# Altium integrated library Intersil Discrete MOSFET.IntLib: 281 symbols (part 4 of 5)
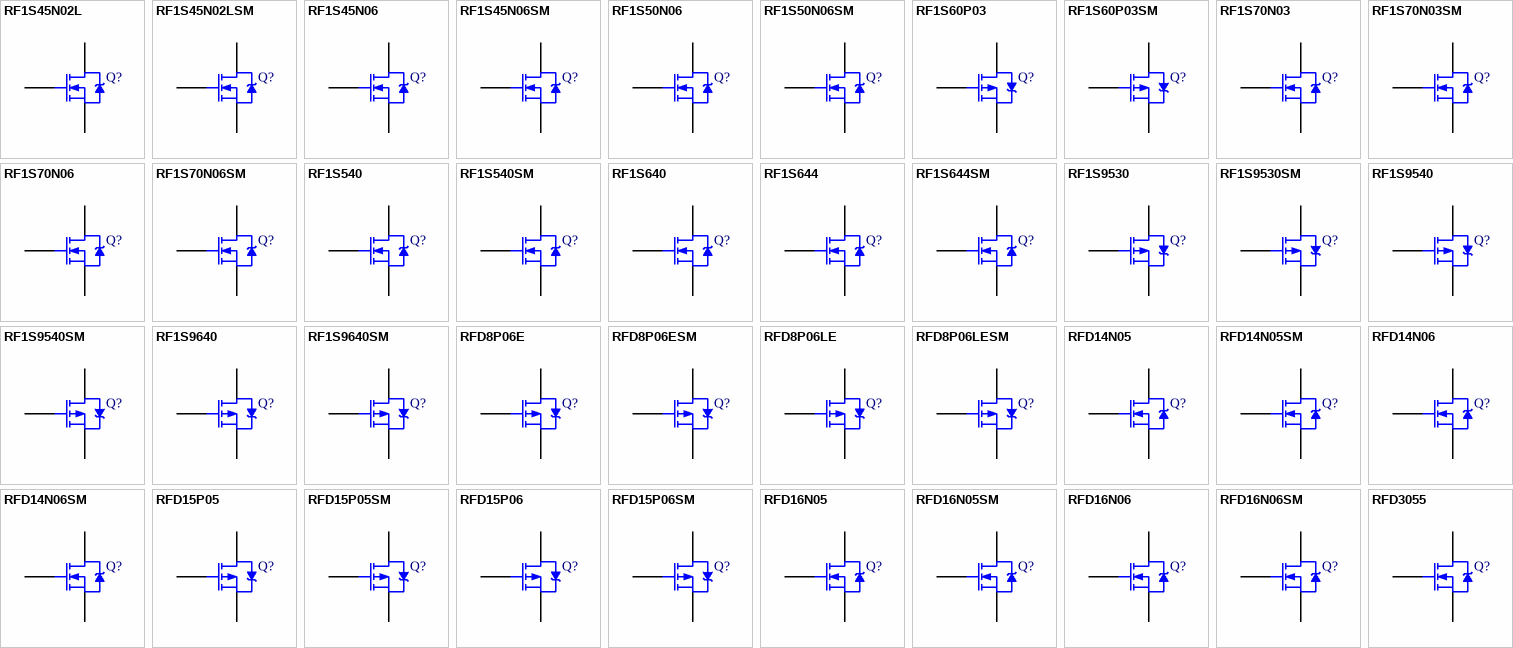
[diagram p10: symbols RF1S45N02L to RFD3055]

## RF1S60P03
designator Q?
60A, 30V, 0.027 Ohm, P-Channel Power MOSFET; Note: Pin 2 (drain) is electrically connected to the flange; Published: 8-Jun-2000; LatestRevisionDate: 17-Jul-2002; LatestRevisionNote: VTO made negative; Re-released for DXP Platform.; DatasheetVersion: Sep-1998; PackageVersion: 1997; PackageReference: TO-262AA; Publisher: Altium Limited; PackageDescription: TO, Thru-Hole, Vertical, Heatsink Mounted; 3 In-Line Leads; Pitch 2.54 mm; Code_JEDEC: TO-262-AA; ComponentLink1Description: Manufacturer Link; ComponentLink1URL: http://www.intersil.com/cda/home/
footprint TO-262AA (TO, Thru-Hole, Vertical, Heatsink Mounted; 3 In-Line Leads; Pitch 2.54 mm)
simulation model RF1S60P03 (SUBCKT)
pins: 1 G, 2 D, 3 S

## RF1S60P03SM
designator Q?
60A, 30V, 0.027 Ohm, P-Channel Power MOSFET; Note: Pin 4 (flange drain) is electrically connected to the Pin 2; Pin 2 is trimmed and not drawn; Published: 8-Jun-2000; LatestRevisionDate: 29-May-2009; LatestRevisionNote: IPC-7351 Footprint Added.; DatasheetVersion: Jul-1999; PackageVersion: 1999; PackageReference: TO-263AB; Publisher: Altium Limited; PackageDescription: 3-Pin Transistor Outline Package 2.54 mm Pitch, 15.2 mm Lead Span; Code_JEDEC: TO-263-AB; ComponentLink1Description: Manufacturer Link; ComponentLink1URL: http://www.intersil.com/cda/home/
footprint TO-263AB_N (D2-PAK, 4-Leads, Body 9.3x10.2mm, Pitch 2.54mm, Lead Span 15.2mm, IPC Medium Density)
footprint TO-263AB_L (D2-PAK, 4-Leads, Body 9.3x10.2mm, Pitch 2.54mm, Lead Span 15.2mm, IPC High Density)
footprint TO-263AB_M (D2-PAK, 4-Leads, Body 9.3x10.2mm, Pitch 2.54mm, Lead Span 15.2mm, IPC Low Density)
simulation model RF1S60P03SM (SUBCKT)
pins: 1 G, 3 S, 4 D

## RF1S70N03
designator Q?
70A, 30V, 0.01 Ohm, N-Channel Power MOSFET; Note: Pin 2 (drain) is electrically connected to the flange; Published: 8-Jun-2000; LatestRevisionDate: 17-Jul-2002; LatestRevisionNote: Re-released for DXP Platform.; DatasheetVersion: Oct-1997; PackageVersion: 1997; PackageReference: TO-262AA; Publisher: Altium Limited; PackageDescription: TO, Thru-Hole, Vertical, Heatsink Mounted; 3 In-Line Leads; Pitch 2.54 mm; Code_JEDEC: TO-262-AA; ComponentLink1Description: Manufacturer Link; ComponentLink1URL: http://www.intersil.com/cda/home/
footprint TO-262AA (TO, Thru-Hole, Vertical, Heatsink Mounted; 3 In-Line Leads; Pitch 2.54 mm)
simulation model RF1S70N03 (SUBCKT)
pins: 1 G, 2 D, 3 S

## RF1S70N03SM
designator Q?
70A, 30V, 0.01 Ohm, N-Channel Power MOSFET; Note: Pin 4 (flange drain) is electrically connected to the Pin 2; Pin 2 is trimmed and not drawn; Published: 8-Jun-2000; LatestRevisionDate: 29-May-2009; LatestRevisionNote: IPC-7351 Footprint Added.; DatasheetVersion: Jul-1999; PackageVersion: 1999; PackageReference: TO-263AB; Publisher: Altium Limited; PackageDescription: 3-Pin Transistor Outline Package 2.54 mm Pitch, 15.2 mm Lead Span; Code_JEDEC: TO-263-AB; ComponentLink1Description: Manufacturer Link; ComponentLink1URL: http://www.intersil.com/cda/home/
footprint TO-263AB_N (D2-PAK, 4-Leads, Body 9.3x10.2mm, Pitch 2.54mm, Lead Span 15.2mm, IPC Medium Density)
footprint TO-263AB_L (D2-PAK, 4-Leads, Body 9.3x10.2mm, Pitch 2.54mm, Lead Span 15.2mm, IPC High Density)
footprint TO-263AB_M (D2-PAK, 4-Leads, Body 9.3x10.2mm, Pitch 2.54mm, Lead Span 15.2mm, IPC Low Density)
simulation model RF1S70N03SM (SUBCKT)
pins: 1 G, 3 S, 4 D

## RF1S70N06
designator Q?
70A, 60V, 0.014 Ohm, N-Channel Power MOSFET; Note: Pin 2 (drain) is electrically connected to the flange; Published: 8-Jun-2000; LatestRevisionDate: 17-Jul-2002; LatestRevisionNote: Re-released for DXP Platform.; DatasheetVersion: Sep-1998; PackageVersion: 1997; PackageReference: TO-262AA; Publisher: Altium Limited; PackageDescription: TO, Thru-Hole, Vertical, Heatsink Mounted; 3 In-Line Leads; Pitch 2.54 mm; Code_JEDEC: TO-262-AA; ComponentLink1Description: Manufacturer Link; ComponentLink1URL: http://www.intersil.com/cda/home/
footprint TO-262AA (TO, Thru-Hole, Vertical, Heatsink Mounted; 3 In-Line Leads; Pitch 2.54 mm)
simulation model RF1S70N06 (SUBCKT)
pins: 1 G, 2 D, 3 S

## RF1S70N06SM
designator Q?
70A, 60V, 0.014 Ohm, N-Channel Power MOSFET; Note: Pin 4 (flange drain) is electrically connected to the Pin 2; Pin 2 is trimmed and not drawn; Published: 8-Jun-2000; LatestRevisionDate: 29-May-2009; LatestRevisionNote: IPC-7351 Footprint Added.; DatasheetVersion: Jul-1999; PackageVersion: 1999; PackageReference: TO-263AB; Publisher: Altium Limited; PackageDescription: 3-Pin Transistor Outline Package 2.54 mm Pitch, 15.2 mm Lead Span; Code_JEDEC: TO-263-AB; ComponentLink1Description: Manufacturer Link; ComponentLink1URL: http://www.intersil.com/cda/home/
footprint TO-263AB_N (D2-PAK, 4-Leads, Body 9.3x10.2mm, Pitch 2.54mm, Lead Span 15.2mm, IPC Medium Density)
footprint TO-263AB_L (D2-PAK, 4-Leads, Body 9.3x10.2mm, Pitch 2.54mm, Lead Span 15.2mm, IPC High Density)
footprint TO-263AB_M (D2-PAK, 4-Leads, Body 9.3x10.2mm, Pitch 2.54mm, Lead Span 15.2mm, IPC Low Density)
simulation model RF1S70N06SM (SUBCKT)
pins: 1 G, 3 S, 4 D

## RF1S540
designator Q?
28A, 100V, 0.077 Ohm, N-Channel Power MOSFET; Note: Pin 2 (drain) is electrically connected to the flange; Published: 8-Jun-2000; LatestRevisionDate: 17-Jul-2002; LatestRevisionNote: Re-released for DXP Platform.; DatasheetVersion: Nov-1997; PackageVersion: 1997; PackageReference: TO-262AA; Publisher: Altium Limited; PackageDescription: TO, Thru-Hole, Vertical, Heatsink Mounted; 3 In-Line Leads; Pitch 2.54 mm; Code_JEDEC: TO-262-AA; ComponentLink1Description: Manufacturer Link; ComponentLink1URL: http://www.intersil.com/cda/home/
footprint TO-262AA (TO, Thru-Hole, Vertical, Heatsink Mounted; 3 In-Line Leads; Pitch 2.54 mm)
simulation model RF1S540 (SUBCKT)
pins: 1 G, 2 D, 3 S

## RF1S540SM
designator Q?
28A, 100V, 0.077 Ohm, N-Channel Power MOSFET; Note: Pin 4 (flange drain) is electrically connected to the Pin 2; Pin 2 is trimmed and not drawn; Published: 8-Jun-2000; LatestRevisionDate: 29-May-2009; LatestRevisionNote: IPC-7351 Footprint Added.; DatasheetVersion: Nov-1997; PackageVersion: 1999; PackageReference: TO-263AB; Publisher: Altium Limited; PackageDescription: 3-Pin Transistor Outline Package 2.54 mm Pitch, 15.2 mm Lead Span; Code_JEDEC: TO-263-AB; ComponentLink1Description: Manufacturer Link; ComponentLink1URL: http://www.intersil.com/cda/home/
footprint TO-263AB_N (D2-PAK, 4-Leads, Body 9.3x10.2mm, Pitch 2.54mm, Lead Span 15.2mm, IPC Medium Density)
footprint TO-263AB_L (D2-PAK, 4-Leads, Body 9.3x10.2mm, Pitch 2.54mm, Lead Span 15.2mm, IPC High Density)
footprint TO-263AB_M (D2-PAK, 4-Leads, Body 9.3x10.2mm, Pitch 2.54mm, Lead Span 15.2mm, IPC Low Density)
simulation model RF1S540SM (SUBCKT)
pins: 1 G, 3 S, 4 D

## RF1S640
designator Q?
18A, 200V, 0.18 Ohm,N-Channel Power MOSFET; Note: Pin 2 (drain) is electrically connected to the flange; Published: 8-Jun-2000; LatestRevisionDate: 17-Jul-2002; LatestRevisionNote: Re-released for DXP Platform.; DatasheetVersion: Jul-1998; PackageVersion: 1997; PackageReference: TO-262AA; Publisher: Altium Limited; PackageDescription: TO, Thru-Hole, Vertical, Heatsink Mounted; 3 In-Line Leads; Pitch 2.54 mm; Code_JEDEC: TO-262-AA; ComponentLink1Description: Manufacturer Link; ComponentLink1URL: http://www.intersil.com/cda/home/
footprint TO-262AA (TO, Thru-Hole, Vertical, Heatsink Mounted; 3 In-Line Leads; Pitch 2.54 mm)
simulation model RF1S640 (SUBCKT)
pins: 1 G, 2 D, 3 S

## RF1S644
designator Q?
14A, 250V, 0.28 Ohm, N-Channel Power MOSFET; Note: Pin 2 (drain) is electrically connected to the flange; Published: 8-Jun-2000; LatestRevisionDate: 17-Jul-2002; LatestRevisionNote: Re-released for DXP Platform.; DatasheetVersion: Jan-1998; PackageVersion: 1997; PackageReference: TO-262AA; Publisher: Altium Limited; PackageDescription: TO, Thru-Hole, Vertical, Heatsink Mounted; 3 In-Line Leads; Pitch 2.54 mm; Code_JEDEC: TO-262-AA; ComponentLink1Description: Manufacturer Link; ComponentLink1URL: http://www.intersil.com/cda/home/
footprint TO-262AA (TO, Thru-Hole, Vertical, Heatsink Mounted; 3 In-Line Leads; Pitch 2.54 mm)
simulation model RF1S644 (SUBCKT)
pins: 1 G, 2 D, 3 S

## RF1S644SM
designator Q?
14A, 250V, 0.28 Ohm, N-Channel Power MOSFET; Note: Pin 4 (flange drain) is electrically connected to the Pin 2; Pin 2 is trimmed and not drawn; Published: 8-Jun-2000; LatestRevisionDate: 29-May-2009; LatestRevisionNote: IPC-7351 Footprint Added.; DatasheetVersion: Jan-1998; PackageVersion: 1999; PackageReference: TO-263AB; Publisher: Altium Limited; PackageDescription: 3-Pin Transistor Outline Package 2.54 mm Pitch, 15.2 mm Lead Span; Code_JEDEC: TO-263-AB; ComponentLink1Description: Manufacturer Link; ComponentLink1URL: http://www.intersil.com/cda/home/
footprint TO-263AB_N (D2-PAK, 4-Leads, Body 9.3x10.2mm, Pitch 2.54mm, Lead Span 15.2mm, IPC Medium Density)
footprint TO-263AB_L (D2-PAK, 4-Leads, Body 9.3x10.2mm, Pitch 2.54mm, Lead Span 15.2mm, IPC High Density)
footprint TO-263AB_M (D2-PAK, 4-Leads, Body 9.3x10.2mm, Pitch 2.54mm, Lead Span 15.2mm, IPC Low Density)
simulation model RF1S644SM (SUBCKT)
pins: 1 G, 3 S, 4 D

## RF1S9530
designator Q?
-12A, -100V, 0.3 Ohm, P-Channel Power MOSFET; Note: Pin 2 (drain) is electrically connected to the flange; Published: 8-Jun-2000; LatestRevisionDate: 17-Jul-2002; LatestRevisionNote: Re-released for DXP Platform.; DatasheetVersion: Jan-1998; PackageVersion: 1997; PackageReference: TO-262AA; Publisher: Altium Limited; PackageDescription: TO, Thru-Hole, Vertical, Heatsink Mounted; 3 In-Line Leads; Pitch 2.54 mm; Code_JEDEC: TO-262-AA; ComponentLink1Description: Manufacturer Link; ComponentLink1URL: http://www.intersil.com/cda/home/
footprint TO-262AA (TO, Thru-Hole, Vertical, Heatsink Mounted; 3 In-Line Leads; Pitch 2.54 mm)
simulation model RF1S9530 (SUBCKT)
pins: 1 G, 2 D, 3 S

## RF1S9530SM
designator Q?
12A, 100V, 0.3 Ohm, P-Channel Power MOSFET; Note: Pin 4 (flange drain) is electrically connected to the Pin 2; Pin 2 is trimmed and not drawn; Published: 8-Jun-2000; LatestRevisionDate: 29-May-2009; LatestRevisionNote: IPC-7351 Footprint Added.; DatasheetVersion: Jul-1999; PackageVersion: 1999; PackageReference: TO-263AB; Publisher: Altium Limited; PackageDescription: 3-Pin Transistor Outline Package 2.54 mm Pitch, 15.2 mm Lead Span; Code_JEDEC: TO-263-AB; ComponentLink1Description: Manufacturer Link; ComponentLink1URL: http://www.intersil.com/cda/home/
footprint TO-263AB_N (D2-PAK, 4-Leads, Body 9.3x10.2mm, Pitch 2.54mm, Lead Span 15.2mm, IPC Medium Density)
footprint TO-263AB_L (D2-PAK, 4-Leads, Body 9.3x10.2mm, Pitch 2.54mm, Lead Span 15.2mm, IPC High Density)
footprint TO-263AB_M (D2-PAK, 4-Leads, Body 9.3x10.2mm, Pitch 2.54mm, Lead Span 15.2mm, IPC Low Density)
simulation model RF1S9530SM (SUBCKT)
pins: 1 G, 3 S, 4 D

## RF1S9540
designator Q?
-19A, -100V, 0.2 Ohm, P-Channel Power MOSFET; Note: Pin 2 (drain) is electrically connected to the flange; Published: 8-Jun-2000; LatestRevisionDate: 17-Jul-2002; LatestRevisionNote: VTO made negative; Re-released for DXP Platform.; DatasheetVersion: Jul-1998; PackageVersion: 1997; PackageReference: TO-262AA; Publisher: Altium Limited; PackageDescription: TO, Thru-Hole, Vertical, Heatsink Mounted; 3 In-Line Leads; Pitch 2.54 mm; Code_JEDEC: TO-262-AA; ComponentLink1Description: Manufacturer Link; ComponentLink1URL: http://www.intersil.com/cda/home/
footprint TO-262AA (TO, Thru-Hole, Vertical, Heatsink Mounted; 3 In-Line Leads; Pitch 2.54 mm)
simulation model RF1S9540 (SUBCKT)
pins: 1 G, 2 D, 3 S

## RF1S9540SM
designator Q?
-19A, -100V, 0.2 Ohm, P-Channel Power MOSFET; Note: Pin 4 (flange drain) is electrically connected to the Pin 2; Pin 2 is trimmed and not drawn; Published: 8-Jun-2000; LatestRevisionDate: 29-May-2009; LatestRevisionNote: IPC-7351 Footprint Added.; DatasheetVersion: Apr-1999; PackageVersion: 1999; PackageReference: TO-263AB; Publisher: Altium Limited; PackageDescription: 3-Pin Transistor Outline Package 2.54 mm Pitch, 15.2 mm Lead Span; Code_JEDEC: TO-263-AB; ComponentLink1Description: Manufacturer Link; ComponentLink1URL: http://www.intersil.com/cda/home/
footprint TO-263AB_N (D2-PAK, 4-Leads, Body 9.3x10.2mm, Pitch 2.54mm, Lead Span 15.2mm, IPC Medium Density)
footprint TO-263AB_L (D2-PAK, 4-Leads, Body 9.3x10.2mm, Pitch 2.54mm, Lead Span 15.2mm, IPC High Density)
footprint TO-263AB_M (D2-PAK, 4-Leads, Body 9.3x10.2mm, Pitch 2.54mm, Lead Span 15.2mm, IPC Low Density)
simulation model RF1S9540SM (SUBCKT)
pins: 1 G, 3 S, 4 D

## RF1S9640
designator Q?
-11A, -200V, 0.5 Ohm, P-Channel Power MOSFET; Note: Pin 2 (drain) is electrically connected to the flange; Published: 8-Jun-2000; LatestRevisionDate: 17-Jul-2002; LatestRevisionNote: VTO made negative; Re-released for DXP Platform.; DatasheetVersion: Dec-1997; PackageVersion: 1997; PackageReference: TO-262AA; Publisher: Altium Limited; PackageDescription: TO, Thru-Hole, Vertical, Heatsink Mounted; 3 In-Line Leads; Pitch 2.54 mm; Code_JEDEC: TO-262-AA; ComponentLink1Description: Manufacturer Link; ComponentLink1URL: http://www.intersil.com/cda/home/
footprint TO-262AA (TO, Thru-Hole, Vertical, Heatsink Mounted; 3 In-Line Leads; Pitch 2.54 mm)
simulation model RF1S9640 (SUBCKT)
pins: 1 G, 2 D, 3 S

## RF1S9640SM
designator Q?
11A, 200V, 0.5 Ohm, P-Channel Power MOSFET; Note: Pin 4 (flange drain) is electrically connected to the Pin 2; Pin 2 is trimmed and not drawn; Published: 8-Jun-2000; LatestRevisionDate: 29-May-2009; LatestRevisionNote: IPC-7351 Footprint Added.; DatasheetVersion: Jul-1999; PackageVersion: 1999; PackageReference: TO-263AB; Publisher: Altium Limited; PackageDescription: 3-Pin Transistor Outline Package 2.54 mm Pitch, 15.2 mm Lead Span; Code_JEDEC: TO-263-AB; ComponentLink1Description: Manufacturer Link; ComponentLink1URL: http://www.intersil.com/cda/home/
footprint TO-263AB_N (D2-PAK, 4-Leads, Body 9.3x10.2mm, Pitch 2.54mm, Lead Span 15.2mm, IPC Medium Density)
footprint TO-263AB_L (D2-PAK, 4-Leads, Body 9.3x10.2mm, Pitch 2.54mm, Lead Span 15.2mm, IPC High Density)
footprint TO-263AB_M (D2-PAK, 4-Leads, Body 9.3x10.2mm, Pitch 2.54mm, Lead Span 15.2mm, IPC Low Density)
simulation model RF1S9640SM (SUBCKT)
pins: 1 G, 3 S, 4 D

## RFD8P06E
designator Q?
8A, 60V, 0.3 Ohm, P-Channel Power MOSFET; Note: Pin 2 (drain) is electrically connected to the flange; Published: 8-Jun-2000; LatestRevisionDate: 17-Jul-2002; LatestRevisionNote: Re-released for DXP Platform.; DatasheetVersion: Jul-1999; PackageVersion: 1994; PackageReference: TO-251AA; Publisher: Altium Limited; PackageDescription: TO, Thru-Hole, Vertical, Heatsink Mounted; 3 In-Line Leads; Pitch 2.28 mm; ComponentLink1Description: Manufacturer Link; ComponentLink1URL: http://www.intersil.com/cda/home/
footprint TO-251AA (TO, Thru-Hole, Vertical, Heatsink Mounted; 3 In-Line Leads; Pitch 2.28 mm)
simulation model RFD8P06E (SUBCKT)
pins: 1 G, 2 D, 3 S

## RFD8P06ESM
designator Q?
8A, 60V, 0.3 Ohm, P-Channel Power MOSFET; Note: Pin 4 (flange drain) is electrically connected to the Pin 2; Pin 2 is trimmed and not drawn; Published: 8-Jun-2000; LatestRevisionDate: 29-May-2009; LatestRevisionNote: IPC-7351 Footprint Added.; DatasheetVersion: Jul-1999; PackageVersion: 1994; PackageReference: TO-252AA; Publisher: Altium Limited; PackageDescription: 3-Pin Transistor Outline Package 2.28 mm Pitch, 9.8 mm Lead Span; Code_JEDEC: TO-252-AA; ComponentLink1Description: Manufacturer Link; ComponentLink1URL: http://www.intersil.com/cda/home/
footprint TO-252AA_N (D-PAK, 4-Leads, Body 6.1x6.5mm, Pitch 2.28mm, Lead Span 9.8mm, IPC Medium Density)
footprint TO-252AA_L (D-PAK, 4-Leads, Body 6.1x6.5mm, Pitch 2.28mm, Lead Span 9.8mm, IPC High Density)
footprint TO-252AA_M (D-PAK, 4-Leads, Body 6.1x6.5mm, Pitch 2.28mm, Lead Span 9.8mm, IPC Low Density)
simulation model RFD8P06ESM (SUBCKT)
pins: 1 G, 3 S, 4 D

## RFD8P06LE
designator Q?
8A, 60V, 0.3 Ohm, ESD Rated, Logic Level, P-Channel Power MOSFET; Note: Pin 2 (drain) is electrically connected to the flange; Published: 8-Jun-2000; LatestRevisionDate: 17-Jul-2002; LatestRevisionNote: Re-released for DXP Platform.; DatasheetVersion: Jul-1999; PackageVersion: 1994; PackageReference: TO-251AA; Publisher: Altium Limited; PackageDescription: TO, Thru-Hole, Vertical, Heatsink Mounted; 3 In-Line Leads; Pitch 2.28 mm; ComponentLink1Description: Manufacturer Link; ComponentLink1URL: http://www.intersil.com/cda/home/
footprint TO-251AA (TO, Thru-Hole, Vertical, Heatsink Mounted; 3 In-Line Leads; Pitch 2.28 mm)
simulation model RFD8P06LE (SUBCKT)
pins: 1 G, 2 D, 3 S

## RFD8P06LESM
designator Q?
8A, 60V, 0.3 Ohm, ESD Rated, Logic Level, P-Channel Power MOSFET; Note: Pin 4 (flange drain) is electrically connected to the Pin 2; Pin 2 is trimmed and not drawn; Published: 8-Jun-2000; LatestRevisionDate: 29-May-2009; LatestRevisionNote: IPC-7351 Footprint Added.; DatasheetVersion: Jul-1999; PackageVersion: 1994; PackageReference: TO-252AA; Publisher: Altium Limited; PackageDescription: 3-Pin Transistor Outline Package 2.28 mm Pitch, 9.8 mm Lead Span; Code_JEDEC: TO-252-AA; ComponentLink1Description: Manufacturer Link; ComponentLink1URL: http://www.intersil.com/cda/home/
footprint TO-252AA_N (D-PAK, 4-Leads, Body 6.1x6.5mm, Pitch 2.28mm, Lead Span 9.8mm, IPC Medium Density)
footprint TO-252AA_L (D-PAK, 4-Leads, Body 6.1x6.5mm, Pitch 2.28mm, Lead Span 9.8mm, IPC High Density)
footprint TO-252AA_M (D-PAK, 4-Leads, Body 6.1x6.5mm, Pitch 2.28mm, Lead Span 9.8mm, IPC Low Density)
simulation model RFD8P06LESM (SUBCKT)
pins: 1 G, 3 S, 4 D

## RFD14N05
designator Q?
14A, 50V, 0.1 Ohm, N-Channel Power MOSFET; Note: Pin 2 (drain) is electrically connected to the flange; Published: 8-Jun-2000; LatestRevisionDate: 17-Jul-2002; LatestRevisionNote: Re-released for DXP Platform.; DatasheetVersion: Jul-1999; PackageVersion: 1994; PackageReference: TO-251AA; Publisher: Altium Limited; PackageDescription: TO, Thru-Hole, Vertical, Heatsink Mounted; 3 In-Line Leads; Pitch 2.28 mm; ComponentLink1Description: Manufacturer Link; ComponentLink1URL: http://www.intersil.com/cda/home/
footprint TO-251AA (TO, Thru-Hole, Vertical, Heatsink Mounted; 3 In-Line Leads; Pitch 2.28 mm)
simulation model RFD14N05 (SUBCKT)
pins: 1 G, 2 D, 3 S

## RFD14N05SM
designator Q?
14A, 50V, 0.1 Ohm, N-Channel Power MOSFET; Note: Pin 4 (flange drain) is electrically connected to the Pin 2; Pin 2 is trimmed and not drawn; Published: 8-Jun-2000; LatestRevisionDate: 29-May-2009; LatestRevisionNote: IPC-7351 Footprint Added.; DatasheetVersion: Jul-1999; PackageVersion: 1994; PackageReference: TO-252AA; Publisher: Altium Limited; PackageDescription: 3-Pin Transistor Outline Package 2.28 mm Pitch, 9.8 mm Lead Span; Code_JEDEC: TO-252-AA; ComponentLink1Description: Manufacturer Link; ComponentLink1URL: http://www.intersil.com/cda/home/
footprint TO-252AA_N (D-PAK, 4-Leads, Body 6.1x6.5mm, Pitch 2.28mm, Lead Span 9.8mm, IPC Medium Density)
footprint TO-252AA_L (D-PAK, 4-Leads, Body 6.1x6.5mm, Pitch 2.28mm, Lead Span 9.8mm, IPC High Density)
footprint TO-252AA_M (D-PAK, 4-Leads, Body 6.1x6.5mm, Pitch 2.28mm, Lead Span 9.8mm, IPC Low Density)
simulation model RFD14N05SM (SUBCKT)
pins: 1 G, 3 S, 4 D

## RFD14N06
designator Q?
14A, 60V, Avalanche Rated N-Channel Enhancement-Mode Power MOSFET; Note: Pin 2 (drain) is electrically connected to the flange; Published: 8-Jun-2000; LatestRevisionDate: 17-Jul-2002; LatestRevisionNote: Re-released for DXP Platform.; DatasheetVersion: Jun-1995; PackageVersion: 1994; PackageReference: TO-251AA; Publisher: Altium Limited; PackageDescription: TO, Thru-Hole, Vertical, Heatsink Mounted; 3 In-Line Leads; Pitch 2.28 mm; ComponentLink1Description: Manufacturer Link; ComponentLink1URL: http://www.intersil.com/cda/home/
footprint TO-251AA (TO, Thru-Hole, Vertical, Heatsink Mounted; 3 In-Line Leads; Pitch 2.28 mm)
simulation model RFD14N06 (SUBCKT)
pins: 1 G, 2 D, 3 S

## RFD14N06SM
designator Q?
14A, 60V, Avalanche Rated N-Channel Enhancement-Mode Power MOSFET; Note: Pin 4 (flange drain) is electrically connected to the Pin 2; Pin 2 is trimmed and not drawn; Published: 8-Jun-2000; LatestRevisionDate: 29-May-2009; LatestRevisionNote: IPC-7351 Footprint Added.; DatasheetVersion: Jun-1995; PackageVersion: 1994; PackageReference: TO-252AA; Publisher: Altium Limited; PackageDescription: 3-Pin Transistor Outline Package 2.28 mm Pitch, 9.8 mm Lead Span; Code_JEDEC: TO-252-AA; ComponentLink1Description: Manufacturer Link; ComponentLink1URL: http://www.intersil.com/cda/home/
footprint TO-252AA_N (D-PAK, 4-Leads, Body 6.1x6.5mm, Pitch 2.28mm, Lead Span 9.8mm, IPC Medium Density)
footprint TO-252AA_L (D-PAK, 4-Leads, Body 6.1x6.5mm, Pitch 2.28mm, Lead Span 9.8mm, IPC High Density)
footprint TO-252AA_M (D-PAK, 4-Leads, Body 6.1x6.5mm, Pitch 2.28mm, Lead Span 9.8mm, IPC Low Density)
simulation model RFD14N06SM (SUBCKT)
pins: 1 G, 3 S, 4 D

## RFD15P05
designator Q?
-15A, -50V, 0.15 Ohm, P-Channel Power MOSFET; Note: Pin 2 (drain) is electrically connected to the flange; Published: 8-Jun-2000; LatestRevisionDate: 17-Jul-2002; LatestRevisionNote: VTO made negative; Re-released for DXP Platform.; DatasheetVersion: Sep-1998; PackageVersion: 1994; PackageReference: TO-251AA; Publisher: Altium Limited; PackageDescription: TO, Thru-Hole, Vertical, Heatsink Mounted; 3 In-Line Leads; Pitch 2.28 mm; ComponentLink1Description: Manufacturer Link; ComponentLink1URL: http://www.intersil.com/cda/home/
footprint TO-251AA (TO, Thru-Hole, Vertical, Heatsink Mounted; 3 In-Line Leads; Pitch 2.28 mm)
simulation model RFD15P05 (SUBCKT)
pins: 1 G, 2 D, 3 S

## RFD15P05SM
designator Q?
-15A, -50V, 0.15 Ohm, P-Channel Power MOSFET; Note: Pin 4 (flange drain) is electrically connected to the Pin 2; Pin 2 is trimmed and not drawn; Published: 8-Jun-2000; LatestRevisionDate: 29-May-2009; LatestRevisionNote: IPC-7351 Footprint Added.; DatasheetVersion: Sep-1998; PackageVersion: 1994; PackageReference: TO-252AA; Publisher: Altium Limited; PackageDescription: 3-Pin Transistor Outline Package 2.28 mm Pitch, 9.8 mm Lead Span; Code_JEDEC: TO-252-AA; ComponentLink1Description: Manufacturer Link; ComponentLink1URL: http://www.intersil.com/cda/home/
footprint TO-252AA_N (D-PAK, 4-Leads, Body 6.1x6.5mm, Pitch 2.28mm, Lead Span 9.8mm, IPC Medium Density)
footprint TO-252AA_L (D-PAK, 4-Leads, Body 6.1x6.5mm, Pitch 2.28mm, Lead Span 9.8mm, IPC High Density)
footprint TO-252AA_M (D-PAK, 4-Leads, Body 6.1x6.5mm, Pitch 2.28mm, Lead Span 9.8mm, IPC Low Density)
simulation model RFD15P05SM (SUBCKT)
pins: 1 G, 3 S, 4 D

## RFD15P06
designator Q?
15A, 60V, 0.15 Ohm, P-Channel Power MOSFET; Note: Pin 2 (drain) is electrically connected to the flange; Published: 8-Jun-2000; LatestRevisionDate: 17-Jul-2002; LatestRevisionNote: Re-released for DXP Platform.; DatasheetVersion: Jul-1999; PackageVersion: 1994; PackageReference: TO-251AA; Publisher: Altium Limited; PackageDescription: TO, Thru-Hole, Vertical, Heatsink Mounted; 3 In-Line Leads; Pitch 2.28 mm; ComponentLink1Description: Manufacturer Link; ComponentLink1URL: http://www.intersil.com/cda/home/
footprint TO-251AA (TO, Thru-Hole, Vertical, Heatsink Mounted; 3 In-Line Leads; Pitch 2.28 mm)
simulation model RFD15P06 (SUBCKT)
pins: 1 G, 2 D, 3 S

## RFD15P06SM
designator Q?
15A, 60V, 0.15 Ohm, P-Channel Power MOSFET; Note: Pin 4 (flange drain) is electrically connected to the Pin 2; Pin 2 is trimmed and not drawn; Published: 8-Jun-2000; LatestRevisionDate: 29-May-2009; LatestRevisionNote: IPC-7351 Footprint Added.; DatasheetVersion: Jul-1999; PackageVersion: 1994; PackageReference: TO-252AA; Publisher: Altium Limited; PackageDescription: 3-Pin Transistor Outline Package 2.28 mm Pitch, 9.8 mm Lead Span; Code_JEDEC: TO-252-AA; ComponentLink1Description: Manufacturer Link; ComponentLink1URL: http://www.intersil.com/cda/home/
footprint TO-252AA_N (D-PAK, 4-Leads, Body 6.1x6.5mm, Pitch 2.28mm, Lead Span 9.8mm, IPC Medium Density)
footprint TO-252AA_L (D-PAK, 4-Leads, Body 6.1x6.5mm, Pitch 2.28mm, Lead Span 9.8mm, IPC High Density)
footprint TO-252AA_M (D-PAK, 4-Leads, Body 6.1x6.5mm, Pitch 2.28mm, Lead Span 9.8mm, IPC Low Density)
simulation model RFD15P06SM (SUBCKT)
pins: 1 G, 3 S, 4 D

## RFD16N05
designator Q?
16A, 50V, 0.047 Ohm, N-Channel Power MOSFET; Note: Pin 2 (drain) is electrically connected to the flange; Published: 8-Jun-2000; LatestRevisionDate: 17-Jul-2002; LatestRevisionNote: Re-released for DXP Platform.; DatasheetVersion: Jul-1999; PackageVersion: 1994; PackageReference: TO-251AA; Publisher: Altium Limited; PackageDescription: TO, Thru-Hole, Vertical, Heatsink Mounted; 3 In-Line Leads; Pitch 2.28 mm; ComponentLink1Description: Manufacturer Link; ComponentLink1URL: http://www.intersil.com/cda/home/
footprint TO-251AA (TO, Thru-Hole, Vertical, Heatsink Mounted; 3 In-Line Leads; Pitch 2.28 mm)
simulation model RFD16N05 (SUBCKT)
pins: 1 G, 2 D, 3 S

## RFD16N05SM
designator Q?
16A, 50V, 0.047 Ohm, N-Channel Power MOSFET; Note: Pin 4 (flange drain) is electrically connected to the Pin 2; Pin 2 is trimmed and not drawn; Published: 8-Jun-2000; LatestRevisionDate: 29-May-2009; LatestRevisionNote: IPC-7351 Footprint Added.; DatasheetVersion: Jul-1999; PackageVersion: 1994; PackageReference: TO-252AA; Publisher: Altium Limited; PackageDescription: 3-Pin Transistor Outline Package 2.28 mm Pitch, 9.8 mm Lead Span; Code_JEDEC: TO-252-AA; ComponentLink1Description: Manufacturer Link; ComponentLink1URL: http://www.intersil.com/cda/home/
footprint TO-252AA_N (D-PAK, 4-Leads, Body 6.1x6.5mm, Pitch 2.28mm, Lead Span 9.8mm, IPC Medium Density)
footprint TO-252AA_L (D-PAK, 4-Leads, Body 6.1x6.5mm, Pitch 2.28mm, Lead Span 9.8mm, IPC High Density)
footprint TO-252AA_M (D-PAK, 4-Leads, Body 6.1x6.5mm, Pitch 2.28mm, Lead Span 9.8mm, IPC Low Density)
simulation model RFD16N05SM (SUBCKT)
pins: 1 G, 3 S, 4 D

## RFD16N06
designator Q?
16A, 60V, 0.047 Ohm, N-Channel Power MOSFET; Note: Pin 2 (drain) is electrically connected to the flange; Published: 8-Jun-2000; LatestRevisionDate: 17-Jul-2002; LatestRevisionNote: Re-released for DXP Platform.; DatasheetVersion: Sep-1998; PackageVersion: 1994; PackageReference: TO-251AA; Publisher: Altium Limited; PackageDescription: TO, Thru-Hole, Vertical, Heatsink Mounted; 3 In-Line Leads; Pitch 2.28 mm; ComponentLink1Description: Manufacturer Link; ComponentLink1URL: http://www.intersil.com/cda/home/
footprint TO-251AA (TO, Thru-Hole, Vertical, Heatsink Mounted; 3 In-Line Leads; Pitch 2.28 mm)
simulation model RFD16N06 (SUBCKT)
pins: 1 G, 2 D, 3 S

## RFD16N06SM
designator Q?
16A, 60V, 0.047 Ohm, N-Channel Power MOSFET; Note: Pin 4 (flange drain) is electrically connected to the Pin 2; Pin 2 is trimmed and not drawn; Published: 8-Jun-2000; LatestRevisionDate: 29-May-2009; LatestRevisionNote: IPC-7351 Footprint Added.; DatasheetVersion: Sep-1998; PackageVersion: 1994; PackageReference: TO-252AA; Publisher: Altium Limited; PackageDescription: 3-Pin Transistor Outline Package 2.28 mm Pitch, 9.8 mm Lead Span; Code_JEDEC: TO-252-AA; ComponentLink1Description: Manufacturer Link; ComponentLink1URL: http://www.intersil.com/cda/home/
footprint TO-252AA_N (D-PAK, 4-Leads, Body 6.1x6.5mm, Pitch 2.28mm, Lead Span 9.8mm, IPC Medium Density)
footprint TO-252AA_L (D-PAK, 4-Leads, Body 6.1x6.5mm, Pitch 2.28mm, Lead Span 9.8mm, IPC High Density)
footprint TO-252AA_M (D-PAK, 4-Leads, Body 6.1x6.5mm, Pitch 2.28mm, Lead Span 9.8mm, IPC Low Density)
simulation model RFD16N06SM (SUBCKT)
pins: 1 G, 3 S, 4 D

## RFD3055
designator Q?
12A, 60V, 0.150 Ohm, N-Channel Power MOSFET; Note: Pin 2 (drain) is electrically connected to the flange; Published: 8-Jun-2000; LatestRevisionDate: 17-Jul-2002; LatestRevisionNote: Re-released for DXP Platform.; DatasheetVersion: Jul-1998; PackageVersion: 1994; PackageReference: TO-251AA; Publisher: Altium Limited; PackageDescription: TO, Thru-Hole, Vertical, Heatsink Mounted; 3 In-Line Leads; Pitch 2.28 mm; ComponentLink1Description: Manufacturer Link; ComponentLink1URL: http://www.intersil.com/cda/home/
footprint TO-251AA (TO, Thru-Hole, Vertical, Heatsink Mounted; 3 In-Line Leads; Pitch 2.28 mm)
simulation model RFD3055 (SUBCKT)
pins: 1 G, 2 D, 3 S

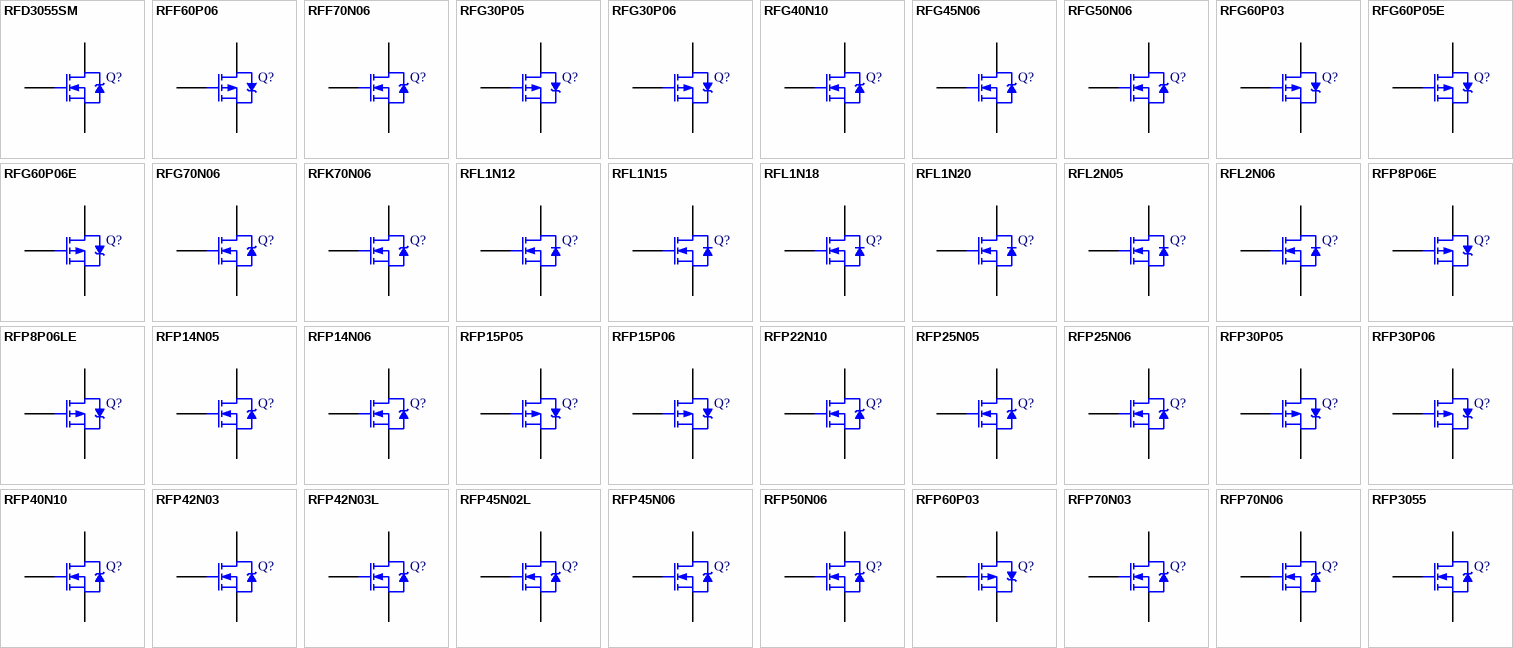
[diagram p6: symbols RFD3055SM to RFP3055]

## RFD3055SM
designator Q?
12A, 60V, 0.150 Ohm, N-Channel Power MOSFET; Note: Pin 4 (flange drain) is electrically connected to the Pin 2; Pin 2 is trimmed and not drawn; Published: 8-Jun-2000; LatestRevisionDate: 29-May-2009; LatestRevisionNote: IPC-7351 Footprint Added.; DatasheetVersion: Jul-1999; PackageVersion: 1994; PackageReference: TO-252AA; Publisher: Altium Limited; PackageDescription: 3-Pin Transistor Outline Package 2.28 mm Pitch, 9.8 mm Lead Span; Code_JEDEC: TO-252-AA; ComponentLink1Description: Manufacturer Link; ComponentLink1URL: http://www.intersil.com/cda/home/
footprint TO-252AA_N (D-PAK, 4-Leads, Body 6.1x6.5mm, Pitch 2.28mm, Lead Span 9.8mm, IPC Medium Density)
footprint TO-252AA_L (D-PAK, 4-Leads, Body 6.1x6.5mm, Pitch 2.28mm, Lead Span 9.8mm, IPC High Density)
footprint TO-252AA_M (D-PAK, 4-Leads, Body 6.1x6.5mm, Pitch 2.28mm, Lead Span 9.8mm, IPC Low Density)
simulation model RFD3055SM (SUBCKT)
pins: 1 G, 3 S, 4 D

## RFF60P06
designator Q?
25A, 60V, 0.03 Ohm, P-Channel Power MOSFET; Note: The TAB is electrically isolated; Published: 8-Jun-2000; LatestRevisionDate: 17-Jul-2002; LatestRevisionNote: VTO made negative; Re-released for DXP Platform.; DatasheetVersion: Sep-1998; PackageVersion: 1993; PackageReference: TO-254AA; Publisher: Altium Limited; PackageDescription: TO, Thru-Hole, Vertical, Heatsink Mounted; 3 In-Line Leads; Pitch 3.81 mm; Code_JEDEC: TO-254-AA; ComponentLink1Description: Manufacturer Link; ComponentLink1URL: http://www.intersil.com/cda/home/
footprint TO-254AA (TO, Thru-Hole, Vertical, Heatsink Mounted; 3 In-Line Leads; Pitch 3.81 mm)
simulation model RFF60P06 (SUBCKT)
pins: 1 D, 2 S, 3 G

## RFF70N06
designator Q?
25A, 60V, 0.025 Ohm, N-Channel Power MOSFET; Note: The TAB is electrically isolated; Published: 8-Jun-2000; LatestRevisionDate: 17-Jul-2002; LatestRevisionNote: Re-released for DXP Platform.; DatasheetVersion: Mar-1999; PackageVersion: 1993; PackageReference: TO-254AA; Publisher: Altium Limited; PackageDescription: TO, Thru-Hole, Vertical, Heatsink Mounted; 3 In-Line Leads; Pitch 3.81 mm; Code_JEDEC: TO-254-AA; ComponentLink1Description: Manufacturer Link; ComponentLink1URL: http://www.intersil.com/cda/home/
footprint TO-254AA (TO, Thru-Hole, Vertical, Heatsink Mounted; 3 In-Line Leads; Pitch 3.81 mm)
simulation model RFF70N06 (SUBCKT)
pins: 1 D, 2 S, 3 G

## RFG30P05
designator Q?
30A, 50V, 0.065 Ohm, P-Channel Power MOSFET; Note: Pin 2 (drain) is electrically connected to the case metal; Published: 8-Jun-2000; LatestRevisionDate: 17-Jul-2002; LatestRevisionNote: VTO made negative; Re-released for DXP Platform.; DatasheetVersion: Sep-1998; PackageVersion: 1994; PackageReference: TO-247; Publisher: Altium Limited; PackageDescription: SIP with Mounting Hole; 3 Leads; Body 20.6 x 15.6 x 4.7 mm (typ); Pitch 5.56 mm; ComponentLink1Description: Manufacturer Link; ComponentLink1URL: http://www.intersil.com/cda/home/
footprint TO-247 (SIP with Mounting Hole; 3 Leads; Body 20.6 x 15.6 x 4.7 mm (typ); Pitch 5.56 mm)
simulation model RFG30P05 (SUBCKT)
pins: 1 G, 2 D, 3 S

## RFG30P06
designator Q?
30A, 60V, 0.065 Ohm, P-Channel Power MOSFET; Note: Pin 2 (drain) is electrically connected to the case metal; Published: 8-Jun-2000; LatestRevisionDate: 17-Jul-2002; LatestRevisionNote: Re-released for DXP Platform.; DatasheetVersion: Jul-1999; PackageVersion: 1994; PackageReference: TO-247; Publisher: Altium Limited; PackageDescription: SIP with Mounting Hole; 3 Leads; Body 20.6 x 15.6 x 4.7 mm (typ); Pitch 5.56 mm; ComponentLink1Description: Manufacturer Link; ComponentLink1URL: http://www.intersil.com/cda/home/
footprint TO-247 (SIP with Mounting Hole; 3 Leads; Body 20.6 x 15.6 x 4.7 mm (typ); Pitch 5.56 mm)
simulation model RFG30P06 (SUBCKT)
pins: 1 G, 2 D, 3 S

## RFG40N10
designator Q?
40A, 100V, 0.04 Ohm, N-Channel Power MOSFET; Note: Pin 2 (drain) is electrically connected to the case metal; Published: 8-Jun-2000; LatestRevisionDate: 17-Jul-2002; LatestRevisionNote: Re-released for DXP Platform.; DatasheetVersion: Oct-1997; PackageVersion: 1994; PackageReference: TO-247; Publisher: Altium Limited; PackageDescription: SIP with Mounting Hole; 3 Leads; Body 20.6 x 15.6 x 4.7 mm (typ); Pitch 5.56 mm; ComponentLink1Description: Manufacturer Link; ComponentLink1URL: http://www.intersil.com/cda/home/
footprint TO-247 (SIP with Mounting Hole; 3 Leads; Body 20.6 x 15.6 x 4.7 mm (typ); Pitch 5.56 mm)
simulation model RFG40N10 (SUBCKT)
pins: 1 G, 2 D, 3 S

## RFG45N06
designator Q?
45A, 60V, 0.028 Ohm, N-Channel Power MOSFET; Note: Pin 2 (drain) is electrically connected to the case metal; Published: 8-Jun-2000; LatestRevisionDate: 17-Jul-2002; LatestRevisionNote: Re-released for DXP Platform.; DatasheetVersion: Jul-1999; PackageVersion: 1994; PackageReference: TO-247; Publisher: Altium Limited; PackageDescription: SIP with Mounting Hole; 3 Leads; Body 20.6 x 15.6 x 4.7 mm (typ); Pitch 5.56 mm; ComponentLink1Description: Manufacturer Link; ComponentLink1URL: http://www.intersil.com/cda/home/
footprint TO-247 (SIP with Mounting Hole; 3 Leads; Body 20.6 x 15.6 x 4.7 mm (typ); Pitch 5.56 mm)
simulation model RFG45N06 (SUBCKT)
pins: 1 G, 2 D, 3 S

## RFG50N06
designator Q?
50A, 60V, 0.022 Ohm, N-Channel Power MOSFET; Note: Pin 2 (drain) is electrically connected to the case metal; Published: 8-Jun-2000; LatestRevisionDate: 17-Jul-2002; LatestRevisionNote: Re-released for DXP Platform.; DatasheetVersion: Jul-1999; PackageVersion: 1994; PackageReference: TO-247; Publisher: Altium Limited; PackageDescription: SIP with Mounting Hole; 3 Leads; Body 20.6 x 15.6 x 4.7 mm (typ); Pitch 5.56 mm; ComponentLink1Description: Manufacturer Link; ComponentLink1URL: http://www.intersil.com/cda/home/
footprint TO-247 (SIP with Mounting Hole; 3 Leads; Body 20.6 x 15.6 x 4.7 mm (typ); Pitch 5.56 mm)
simulation model RFG50N06 (SUBCKT)
pins: 1 G, 2 D, 3 S

## RFG60P03
designator Q?
60A, 30V, 0.027 Ohm, P-Channel Power MOSFET; Note: Pin 2 (drain) is electrically connected to the case metal; Published: 8-Jun-2000; LatestRevisionDate: 17-Jul-2002; LatestRevisionNote: VTO made negative; Re-released for DXP Platform.; DatasheetVersion: Jul-1999; PackageVersion: 1994; PackageReference: TO-247; Publisher: Altium Limited; PackageDescription: SIP with Mounting Hole; 3 Leads; Body 20.6 x 15.6 x 4.7 mm (typ); Pitch 5.56 mm; ComponentLink1Description: Manufacturer Link; ComponentLink1URL: http://www.intersil.com/cda/home/
footprint TO-247 (SIP with Mounting Hole; 3 Leads; Body 20.6 x 15.6 x 4.7 mm (typ); Pitch 5.56 mm)
simulation model RFG60P03 (SUBCKT)
pins: 1 G, 2 D, 3 S

## RFG60P05E
designator Q?
60A, 50V, 0.030 Ohm, ESD Rated, P-Channel Power MOSFET; Note: Pin 2 (drain) is electrically connected to the case metal; Published: 8-Jun-2000; LatestRevisionDate: 17-Jul-2002; LatestRevisionNote: VTO made negative; Re-released for DXP Platform.; DatasheetVersion: Jul-1999; PackageVersion: 1994; PackageReference: TO-247; Publisher: Altium Limited; PackageDescription: SIP with Mounting Hole; 3 Leads; Body 20.6 x 15.6 x 4.7 mm (typ); Pitch 5.56 mm; ComponentLink1Description: Manufacturer Link; ComponentLink1URL: http://www.intersil.com/cda/home/
footprint TO-247 (SIP with Mounting Hole; 3 Leads; Body 20.6 x 15.6 x 4.7 mm (typ); Pitch 5.56 mm)
simulation model RFG60P05E (SUBCKT)
pins: 1 G, 2 D, 3 S

## RFG60P06E
designator Q?
60A, 60V, 0.03 Ohm, ESD Rated, P-Channel Power MOSFET; Note: Pin 2 (drain) is electrically connected to the case metal; Published: 8-Jun-2000; LatestRevisionDate: 17-Jul-2002; LatestRevisionNote: Re-released for DXP Platform.; DatasheetVersion: Jul-1999; PackageVersion: 1994; PackageReference: TO-247; Publisher: Altium Limited; PackageDescription: SIP with Mounting Hole; 3 Leads; Body 20.6 x 15.6 x 4.7 mm (typ); Pitch 5.56 mm; ComponentLink1Description: Manufacturer Link; ComponentLink1URL: http://www.intersil.com/cda/home/
footprint TO-247 (SIP with Mounting Hole; 3 Leads; Body 20.6 x 15.6 x 4.7 mm (typ); Pitch 5.56 mm)
simulation model RFG60P06E (SUBCKT)
pins: 1 G, 2 D, 3 S

## RFG70N06
designator Q?
70A, 60V, 0.014 Ohm, N-Channel Power MOSFET; Note: Pin 2 (drain) is electrically connected to the case metal; Published: 8-Jun-2000; LatestRevisionDate: 17-Jul-2002; LatestRevisionNote: Re-released for DXP Platform.; DatasheetVersion: Jul-1999; PackageVersion: 1994; PackageReference: TO-247; Publisher: Altium Limited; PackageDescription: SIP with Mounting Hole; 3 Leads; Body 20.6 x 15.6 x 4.7 mm (typ); Pitch 5.56 mm; ComponentLink1Description: Manufacturer Link; ComponentLink1URL: http://www.intersil.com/cda/home/
footprint TO-247 (SIP with Mounting Hole; 3 Leads; Body 20.6 x 15.6 x 4.7 mm (typ); Pitch 5.56 mm)
simulation model RFG70N06 (SUBCKT)
pins: 1 G, 2 D, 3 S

## RFK70N06
designator Q?
70A, 60V, 0.014 Ohm, N-Channel Power MOSFET; Note: Pin 3 (drain) is the flange/case; Published: 8-Jun-2000; LatestRevisionDate: 17-Jul-2002; LatestRevisionNote: Re-released for DXP Platform.; DatasheetVersion: Sep-1998; PackageVersion: 1994; PackageReference: TO-204AE; Publisher: Altium Limited; PackageDescription: Oval Flange Mount with (2) Offset Leads; Pin Spacing 10.92 mm; Lead Dia. 1.6 mm (max); Code_JEDEC: TO-204 AE; ComponentLink1Description: Manufacturer Link; ComponentLink1URL: http://www.intersil.com/cda/home/
footprint TO-204AE (Oval Flange Mount with (2) Offset Leads; Pin Spacing 10.92 mm; Lead Dia. 1.6 mm (max))
simulation model RFK70N06 (SUBCKT)
pins: 1 G, 2 S, 3 D

## RFL1N12
designator Q?
1A, 120V, 1.9 Ohm, N-Channel Power MOSFET; Note: Pin 3 (drain) is connected to the case; Published: 8-Jun-2000; LatestRevisionDate: 17-Jul-2002; LatestRevisionNote: Re-released for DXP Platform.; DatasheetVersion: Jan-1998; PackageVersion: rev3, Jun-1994; PackageReference: TO-205AF; Publisher: Altium Limited; PackageDescription: Can; 3 Leads; Pin Circle Dia. 5.08 mm; Lead Dia. 0.53 mm (max); Code_JEDEC: TO-205-AF; ComponentLink1Description: Manufacturer Link; ComponentLink1URL: http://www.intersil.com/cda/home/
footprint TO-205AF (Can; 3 Leads; Pin Circle Dia. 5.08 mm; Lead Dia. 0.53 mm (max))
simulation model RFL1N12 (SUBCKT)
pins: 1 S, 2 G, 3 D

## RFL1N15
designator Q?
1A, 150V, 1.9 Ohm, N-Channel Power MOSFET; Note: Pin 3 (drain) is connected to the case; Published: 8-Jun-2000; LatestRevisionDate: 17-Jul-2002; LatestRevisionNote: Re-released for DXP Platform.; DatasheetVersion: Jan-1998; PackageVersion: rev3, Jun-1994; PackageReference: TO-205AF; Publisher: Altium Limited; PackageDescription: Can; 3 Leads; Pin Circle Dia. 5.08 mm; Lead Dia. 0.53 mm (max); Code_JEDEC: TO-205-AF; ComponentLink1Description: Manufacturer Link; ComponentLink1URL: http://www.intersil.com/cda/home/
footprint TO-205AF (Can; 3 Leads; Pin Circle Dia. 5.08 mm; Lead Dia. 0.53 mm (max))
simulation model RFL1N15 (SUBCKT)
pins: 1 S, 2 G, 3 D

## RFL1N18
designator Q?
1A, 180V, 3.65 Ohm, N-Channel Power MOSFET; Note: Pin 3 (drain) is connected to the case; Published: 8-Jun-2000; LatestRevisionDate: 17-Jul-2002; LatestRevisionNote: Re-released for DXP Platform.; DatasheetVersion: Jan-1998; PackageVersion: rev3, Jun-1994; PackageReference: TO-205AF; Publisher: Altium Limited; PackageDescription: Can; 3 Leads; Pin Circle Dia. 5.08 mm; Lead Dia. 0.53 mm (max); Code_JEDEC: TO-205-AF; ComponentLink1Description: Manufacturer Link; ComponentLink1URL: http://www.intersil.com/cda/home/
footprint TO-205AF (Can; 3 Leads; Pin Circle Dia. 5.08 mm; Lead Dia. 0.53 mm (max))
simulation model RFL1N18 (SUBCKT)
pins: 1 S, 2 G, 3 D

## RFL1N20
designator Q?
1A, 200V, 3.65 Ohm, N-Channel Power MOSFET; Note: Pin 3 (drain) is connected to the case; Published: 8-Jun-2000; LatestRevisionDate: 17-Jul-2002; LatestRevisionNote: Re-released for DXP Platform.; DatasheetVersion: Jan-1998; PackageVersion: rev3, Jun-1994; PackageReference: TO-205AF; Publisher: Altium Limited; PackageDescription: Can; 3 Leads; Pin Circle Dia. 5.08 mm; Lead Dia. 0.53 mm (max); Code_JEDEC: TO-205-AF; ComponentLink1Description: Manufacturer Link; ComponentLink1URL: http://www.intersil.com/cda/home/
footprint TO-205AF (Can; 3 Leads; Pin Circle Dia. 5.08 mm; Lead Dia. 0.53 mm (max))
simulation model RFL1N20 (SUBCKT)
pins: 1 S, 2 G, 3 D

## RFL2N05
designator Q?
2A, 50V, 0.95 Ohm, N-Channel Power MOSFET; Note: Pin 3 (drain) is connected to the case; Published: 8-Jun-2000; LatestRevisionDate: 17-Jul-2002; LatestRevisionNote: Re-released for DXP Platform.; DatasheetVersion: Jan-1998; PackageVersion: rev3, Jun-1994; PackageReference: TO-205AF; Publisher: Altium Limited; PackageDescription: Can; 3 Leads; Pin Circle Dia. 5.08 mm; Lead Dia. 0.53 mm (max); Code_JEDEC: TO-205-AF; ComponentLink1Description: Manufacturer Link; ComponentLink1URL: http://www.intersil.com/cda/home/
footprint TO-205AF (Can; 3 Leads; Pin Circle Dia. 5.08 mm; Lead Dia. 0.53 mm (max))
simulation model RFL2N05 (SUBCKT)
pins: 1 S, 2 G, 3 D

## RFL2N06
designator Q?
2A, 60V, 0.95 Ohm, N-Channel Power MOSFET; Note: Pin 3 (drain) is connected to the case; Published: 8-Jun-2000; LatestRevisionDate: 17-Jul-2002; LatestRevisionNote: Re-released for DXP Platform.; DatasheetVersion: Jan-1998; PackageVersion: rev3, Jun-1994; PackageReference: TO-205AF; Publisher: Altium Limited; PackageDescription: Can; 3 Leads; Pin Circle Dia. 5.08 mm; Lead Dia. 0.53 mm (max); Code_JEDEC: TO-205-AF; ComponentLink1Description: Manufacturer Link; ComponentLink1URL: http://www.intersil.com/cda/home/
footprint TO-205AF (Can; 3 Leads; Pin Circle Dia. 5.08 mm; Lead Dia. 0.53 mm (max))
simulation model RFL2N06 (SUBCKT)
pins: 1 S, 2 G, 3 D

## RFP8P06E
designator Q?
8A, 60V, 0.3 Ohm, P-Channel Power MOSFET; Note: Pin 2 (drain) is electrically connected to the flange; Published: 8-Jun-2000; LatestRevisionDate: 17-Jul-2002; LatestRevisionNote: VTO made negative; Re-released for DXP Platform.; DatasheetVersion: Jul-1999; PackageVersion: 1994; PackageReference: TO-220AB; Publisher: Altium Limited; PackageDescription: TO, Thru-Hole, Vertical, Heatsink Mounted; 3 In-Line Leads; Pitch 2.54 mm; ComponentLink1Description: Manufacturer Link; ComponentLink1URL: http://www.intersil.com/cda/home/
footprint TO-220AB (TO, Thru-Hole, Vertical, Heatsink Mounted; 3 In-Line Leads; Pitch 2.54 mm)
simulation model RFP8P06E (SUBCKT)
pins: 1 G, 2 D, 3 S

## RFP8P06LE
designator Q?
8A, 60V, 0.3 Ohm, ESD Rated, Logic Level, P-Channel Power MOSFET; Note: Pin 2 (drain) is electrically connected to the flange; Published: 8-Jun-2000; LatestRevisionDate: 17-Jul-2002; LatestRevisionNote: Re-released for DXP Platform.; DatasheetVersion: Jul-1999; PackageVersion: 1994; PackageReference: TO-220AB; Publisher: Altium Limited; PackageDescription: TO, Thru-Hole, Vertical, Heatsink Mounted; 3 In-Line Leads; Pitch 2.54 mm; ComponentLink1Description: Manufacturer Link; ComponentLink1URL: http://www.intersil.com/cda/home/
footprint TO-220AB (TO, Thru-Hole, Vertical, Heatsink Mounted; 3 In-Line Leads; Pitch 2.54 mm)
simulation model RFP8P06LE (SUBCKT)
pins: 1 G, 2 D, 3 S

## RFP14N05
designator Q?
14A, 50V, 0.1 Ohm, N-Channel Power MOSFET; Note: Pin 2 (drain) is electrically connected to the flange; Published: 8-Jun-2000; LatestRevisionDate: 17-Jul-2002; LatestRevisionNote: Re-released for DXP Platform.; DatasheetVersion: Apr-1999; PackageVersion: 1994; PackageReference: TO-220AB; Publisher: Altium Limited; PackageDescription: TO, Thru-Hole, Vertical, Heatsink Mounted; 3 In-Line Leads; Pitch 2.54 mm; ComponentLink1Description: Manufacturer Link; ComponentLink1URL: http://www.intersil.com/cda/home/
footprint TO-220AB (TO, Thru-Hole, Vertical, Heatsink Mounted; 3 In-Line Leads; Pitch 2.54 mm)
simulation model RFP14N05 (SUBCKT)
pins: 1 G, 2 D, 3 S

## RFP14N06
designator Q?
14A, 60V, Avalanche Rated N-Channel Enhancement-Mode Power MOSFET; Note: Pin 2 (drain) is electrically connected to the flange; Published: 8-Jun-2000; LatestRevisionDate: 17-Jul-2002; LatestRevisionNote: Re-released for DXP Platform.; DatasheetVersion: Jun-1995; PackageVersion: 1994; PackageReference: TO-220AB; Publisher: Altium Limited; PackageDescription: TO, Thru-Hole, Vertical, Heatsink Mounted; 3 In-Line Leads; Pitch 2.54 mm; ComponentLink1Description: Manufacturer Link; ComponentLink1URL: http://www.intersil.com/cda/home/
footprint TO-220AB (TO, Thru-Hole, Vertical, Heatsink Mounted; 3 In-Line Leads; Pitch 2.54 mm)
simulation model RFP14N06 (SUBCKT)
pins: 1 G, 2 D, 3 S

## RFP15P05
designator Q?
-15A, -50V, 0.15 Ohm, P-Channel Power MOSFET; Note: Pin 2 (drain) is electrically connected to the flange; Published: 8-Jun-2000; LatestRevisionDate: 17-Jul-2002; LatestRevisionNote: Re-released for DXP Platform.; DatasheetVersion: Sep-1998; PackageVersion: 1994; PackageReference: TO-220AB; Publisher: Altium Limited; PackageDescription: TO, Thru-Hole, Vertical, Heatsink Mounted; 3 In-Line Leads; Pitch 2.54 mm; ComponentLink1Description: Manufacturer Link; ComponentLink1URL: http://www.intersil.com/cda/home/
footprint TO-220AB (TO, Thru-Hole, Vertical, Heatsink Mounted; 3 In-Line Leads; Pitch 2.54 mm)
simulation model RFP15P05 (SUBCKT)
pins: 1 G, 2 D, 3 S

## RFP15P06
designator Q?
15A, 60V, 0.15 Ohm, P-Channel Power MOSFET; Note: Pin 2 (drain) is electrically connected to the flange; Published: 8-Jun-2000; LatestRevisionDate: 17-Jul-2002; LatestRevisionNote: VTO made negative; Re-released for DXP Platform.; DatasheetVersion: Jul-1999; PackageVersion: 1994; PackageReference: TO-220AB; Publisher: Altium Limited; PackageDescription: TO, Thru-Hole, Vertical, Heatsink Mounted; 3 In-Line Leads; Pitch 2.54 mm; ComponentLink1Description: Manufacturer Link; ComponentLink1URL: http://www.intersil.com/cda/home/
footprint TO-220AB (TO, Thru-Hole, Vertical, Heatsink Mounted; 3 In-Line Leads; Pitch 2.54 mm)
simulation model RFP15P06 (SUBCKT)
pins: 1 G, 2 D, 3 S

## RFP22N10
designator Q?
22A, 100V, 0.08 Ohm, N-Channel Power MOSFET; Note: Pin 2 (drain) is electrically connected to the flange; Published: 8-Jun-2000; LatestRevisionDate: 17-Jul-2002; LatestRevisionNote: Re-released for DXP Platform.; DatasheetVersion: Apr-1998; PackageVersion: 1994; PackageReference: TO-220AB; Publisher: Altium Limited; PackageDescription: TO, Thru-Hole, Vertical, Heatsink Mounted; 3 In-Line Leads; Pitch 2.54 mm; ComponentLink1Description: Manufacturer Link; ComponentLink1URL: http://www.intersil.com/cda/home/
footprint TO-220AB (TO, Thru-Hole, Vertical, Heatsink Mounted; 3 In-Line Leads; Pitch 2.54 mm)
simulation model RFP22N10 (SUBCKT)
pins: 1 G, 2 D, 3 S

## RFP25N05
designator Q?
25A, 50V, 0.047 Ohm, N-Channel Power MOSFET; Note: Pin 2 (drain) is electrically connected to the flange; Published: 8-Jun-2000; LatestRevisionDate: 17-Jul-2002; LatestRevisionNote: Re-released for DXP Platform.; DatasheetVersion: Jul-1999; PackageVersion: 1994; PackageReference: TO-220AB; Publisher: Altium Limited; PackageDescription: TO, Thru-Hole, Vertical, Heatsink Mounted; 3 In-Line Leads; Pitch 2.54 mm; ComponentLink1Description: Manufacturer Link; ComponentLink1URL: http://www.intersil.com/cda/home/
footprint TO-220AB (TO, Thru-Hole, Vertical, Heatsink Mounted; 3 In-Line Leads; Pitch 2.54 mm)
simulation model RFP25N05 (SUBCKT)
pins: 1 G, 2 D, 3 S

## RFP25N06
designator Q?
25A, 60V, 0.047 Ohm, N-Channel Power MOSFET; Note: Pin 2 (drain) is electrically connected to the flange; Published: 8-Jun-2000; LatestRevisionDate: 17-Jul-2002; LatestRevisionNote: Re-released for DXP Platform.; DatasheetVersion: Oct-1997; PackageVersion: 1994; PackageReference: TO-220AB; Publisher: Altium Limited; PackageDescription: TO, Thru-Hole, Vertical, Heatsink Mounted; 3 In-Line Leads; Pitch 2.54 mm; ComponentLink1Description: Manufacturer Link; ComponentLink1URL: http://www.intersil.com/cda/home/
footprint TO-220AB (TO, Thru-Hole, Vertical, Heatsink Mounted; 3 In-Line Leads; Pitch 2.54 mm)
simulation model RFP25N06 (SUBCKT)
pins: 1 G, 2 D, 3 S

## RFP30P05
designator Q?
30A, 50V, 0.065 Ohm, P-Channel Power MOSFET; Note: Pin 2 (drain) is electrically connected to the flange; Published: 8-Jun-2000; LatestRevisionDate: 17-Jul-2002; LatestRevisionNote: Re-released for DXP Platform.; DatasheetVersion: Sep-1998; PackageVersion: 1994; PackageReference: TO-220AB; Publisher: Altium Limited; PackageDescription: TO, Thru-Hole, Vertical, Heatsink Mounted; 3 In-Line Leads; Pitch 2.54 mm; ComponentLink1Description: Manufacturer Link; ComponentLink1URL: http://www.intersil.com/cda/home/
footprint TO-220AB (TO, Thru-Hole, Vertical, Heatsink Mounted; 3 In-Line Leads; Pitch 2.54 mm)
simulation model RFP30P05 (SUBCKT)
pins: 1 G, 2 D, 3 S

## RFP30P06
designator Q?
30A, 60V, 0.065 Ohm, P-Channel Power MOSFET; Note: Pin 2 (drain) is electrically connected to the flange; Published: 8-Jun-2000; LatestRevisionDate: 17-Jul-2002; LatestRevisionNote: VTO made negative; Re-released for DXP Platform.; DatasheetVersion: Jul-1999; PackageVersion: 1994; PackageReference: TO-220AB; Publisher: Altium Limited; PackageDescription: TO, Thru-Hole, Vertical, Heatsink Mounted; 3 In-Line Leads; Pitch 2.54 mm; ComponentLink1Description: Manufacturer Link; ComponentLink1URL: http://www.intersil.com/cda/home/
footprint TO-220AB (TO, Thru-Hole, Vertical, Heatsink Mounted; 3 In-Line Leads; Pitch 2.54 mm)
simulation model RFP30P06 (SUBCKT)
pins: 1 G, 2 D, 3 S